# Altium schematic symbol library BH-20(DS1013-20S).SchLib: 1 symbol
Pins are listed as number, name and electrical type; pins without a type are passive.

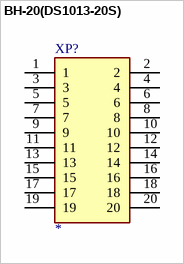
[diagram p0: symbol BH-20(DS1013-20S)]

## BH-20(DS1013-20S)
designator XP?
Connector; Manufacturer_Name: Connfly; Manufacturer_Part_Number: DS1013-20SSIB1-B-0; Datasheet Link: https://www.tme.eu/Document/e9117e1c80532ff2c20cc520b4694ed9/DS1013.pdf; Height: 9.55mm
footprint BH-20(DS1013-20S)
pins: 1, 2, 3, 4, 5, 6, 7, 8, 9, 10, 11, 12, 13, 14, 15, 16, 17, 18, 19, 20